# EAGLE library part L6932D1.2 (library GuShH)
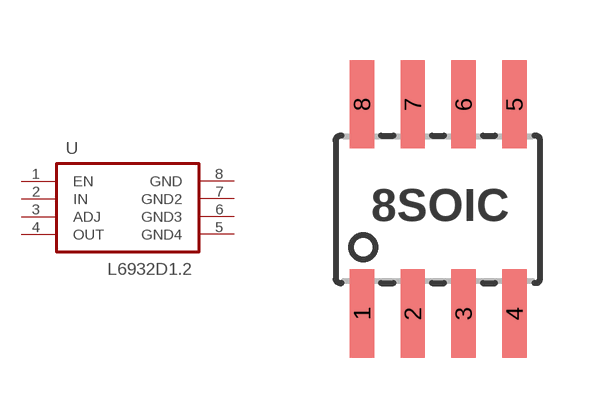
[diagram p8: symbol with the pads of 8-SOIC; footprint 8-SOIC]

Designator prefix -

## L6932D1.2  [8-SOIC]
1  EN
2  IN
3  ADJ
4  OUT
5  GND4
6  GND3
7  GND2
8  GND

## Footprint 8-SOIC (pad centres in mm)
smd 0.61 x 2.21: 1 -1.905,-2.616; 2 -0.635,-2.616; 3 0.635,-2.616; 4 1.905,-2.616; 5 1.905,2.616; 6 0.635,2.616; 7 -0.635,2.616; 8 -1.905,2.616